# EAGLE library part LDT-M2804RI (library steves)
Lumex 7mm Three Digit, 7 Segment Display LDT-M2804RI. Common Anode
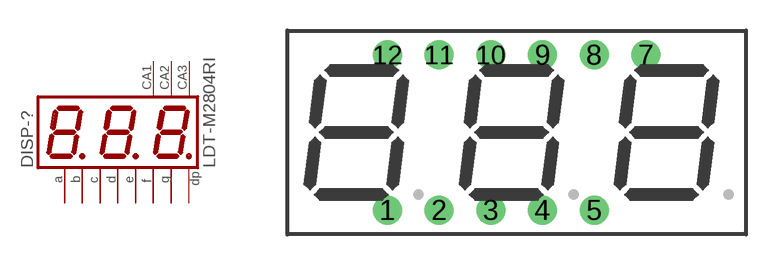
[diagram p36: symbol with the pads of 7SEG-3-028; footprint 7SEG-3-028]

Designator prefix DISP-?

## LDT-M2804RI (ELEMENT14: 1794077)  [7SEG-3-028]
1  E  pas
2  D  pas
3  DP  pas
4  C  pas
5  G  pas
7  B  pas
8  CA  pas
9  CA  pas
10  F  pas
11  A  pas
12  CA  pas

## Footprint 7SEG-3-028 (pad centres in mm)
7mm (0.28INCH) THREE DIGIT NUMERIC DISPLAY Source: http://www.lumex.com ..LDT-M2804RI
drill 0.8 pad 1.422: 1 -6.35,-3.81; 2 -3.81,-3.81; 3 -1.27,-3.81; 4 1.27,-3.81; 5 3.81,-3.81; 7 6.35,3.81; 8 3.81,3.81; 9 1.27,3.81; 10 -1.27,3.81; 11 -3.81,3.81; 12 -6.35,3.81